# EAGLE library part 74HC4051PW,118 (library 74HC4051PW_118)
8-channel analog multiplexer/demultiplexer Source: Datasheet <http://componentsearchengine.com/Datasheets/1/74HC4051PW,118.pdf>
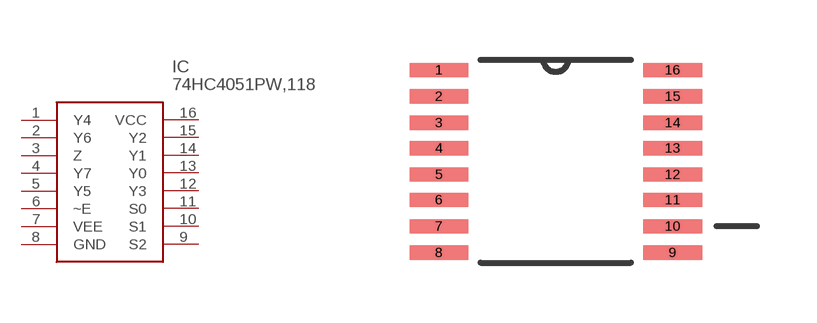
[diagram p0: symbol with the pads of SOP65P640X110-16N; footprint SOP65P640X110-16N]

Designator prefix IC

## 74HC4051PW,118 (Description: 8-channel analog multiplexer/demultiplexer; Height: mm; Manufacturer_Name: Nexperia; Manufacturer_Part_Number: 74HC4051PW,118; Mouser_Part_Number: 771-74HC4051PW-T; Mouser_Price-Stock: https://www.mouser.com/Search/Refine.aspx?Keyword=771-74HC4051PW-T; RS_Part_Number: 1707982; RS_Price-Stock: http://uk.rs-online.com/web/p/products/1707982)  [SOP65P640X110-16N]
1  Y4
2  Y6
3  Z
4  Y7
5  Y5
6  ~E
7  VEE
8  GND
9  S2
10  S1
11  S0
12  Y3
13  Y0
14  Y1
15  Y2
16  VCC

## Footprint SOP65P640X110-16N (pad centres in mm)
SOP65P640X110-16N
smd 1.473 x 0.356: 1 -2.921,2.286; 2 -2.921,1.626; 3 -2.921,0.965; 4 -2.921,0.33; 5 -2.921,-0.33; 6 -2.921,-0.965; 7 -2.921,-1.626; 8 -2.921,-2.286; 9 2.921,-2.286; 10 2.921,-1.626; 11 2.921,-0.965; 12 2.921,-0.33; 13 2.921,0.33; 14 2.921,0.965; 15 2.921,1.626; 16 2.921,2.286